# EAGLE library part XF3M-5015-1B-SAMA5DXPLAINED (library mylib)
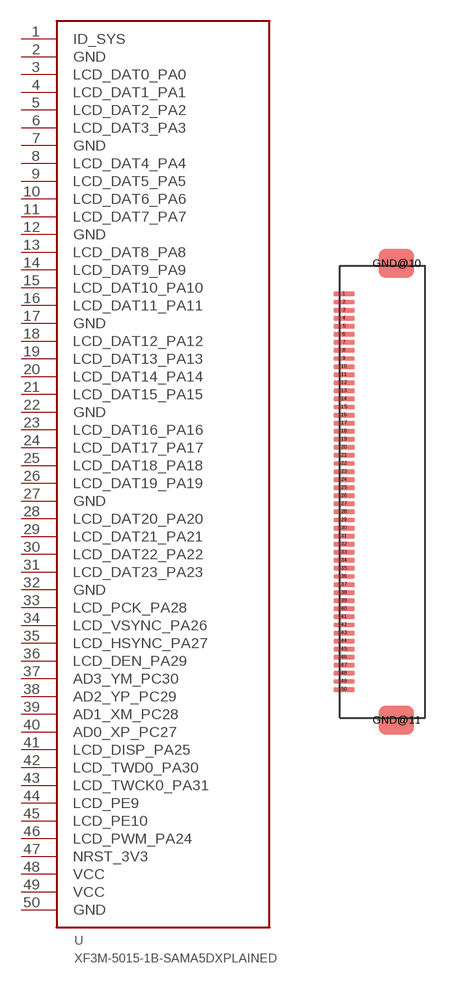
[diagram p6: symbol with the pads of XF3M-5015-1B; footprint XF3M-5015-1B]

Designator prefix -

## XF3M-5015-1B-SAMA5DXPLAINED  [XF3M-5015-1B]
1  ID_SYS  in
2  GND
3  LCD_DAT0_PA0
4  LCD_DAT1_PA1
5  LCD_DAT2_PA2
6  LCD_DAT3_PA3
7  GND
8  LCD_DAT4_PA4
9  LCD_DAT5_PA5
10  LCD_DAT6_PA6
11  LCD_DAT7_PA7
12  GND
13  LCD_DAT8_PA8
14  LCD_DAT9_PA9
15  LCD_DAT10_PA10
16  LCD_DAT11_PA11
17  GND
18  LCD_DAT12_PA12
19  LCD_DAT13_PA13
20  LCD_DAT14_PA14
21  LCD_DAT15_PA15
22  GND
23  LCD_DAT16_PA16
24  LCD_DAT17_PA17
25  LCD_DAT18_PA18
26  LCD_DAT19_PA19
27  GND
28  LCD_DAT20_PA20
29  LCD_DAT21_PA21
30  LCD_DAT22_PA22
31  LCD_DAT23_PA23
32  GND
33  LCD_PCK_PA28
34  LCD_VSYNC_PA26
35  LCD_HSYNC_PA27
36  LCD_DEN_PA29
37  AD3_YM_PC30
38  AD2_YP_PC29
39  AD1_XM_PC28
40  AD0_XP_PC27
41  LCD_DISP_PA25
42  LCD_TWD0_PA30
43  LCD_TWCK0_PA31
44  LCD_PE9
45  LCD_PE10
46  LCD_PWM_PA24
47  NRST_3V3
48  VCC  sup
49  VCC  sup
50  GND

## Footprint XF3M-5015-1B (pad centres in mm)
smd 1.3 x 0.3: 1 0,12.25; 2 0,11.75; 3 0,11.25; 4 0,10.75; 5 0,10.25; 6 0,9.75; 7 0,9.25; 8 0,8.75; 9 0,8.25; 10 0,7.75; 11 0,7.25; 12 0,6.75; 13 0,6.25; 14 0,5.75; 15 0,5.25; 16 0,4.75; 17 0,4.25; 18 0,3.75; 19 0,3.25; 20 0,2.75; 21 0,2.25; 22 0,1.75; 23 0,1.25; 24 0,0.75; 25 0,0.25; 26 0,-0.25; 27 0,-0.75; 28 0,-1.25; 29 0,-1.75; 30 0,-2.25; 31 0,-2.75; 32 0,-3.25; 33 0,-3.75; 34 0,-4.25; 35 0,-4.75; 36 0,-5.25; 37 0,-5.75; 38 0,-6.25; 39 0,-6.75; 40 0,-7.25; 41 0,-7.75; 42 0,-8.25; 43 0,-8.75; 44 0,-9.25; 45 0,-9.75; 46 0,-10.25; 47 0,-10.75; 48 0,-11.25; 49 0,-11.75; 50 0,-12.25
smd 2.2 x 1.8: GND@10 3.25,14.15; GND@11 3.25,-14.15